# EAGLE library part LEVELSHIFTER (library levelshifter)
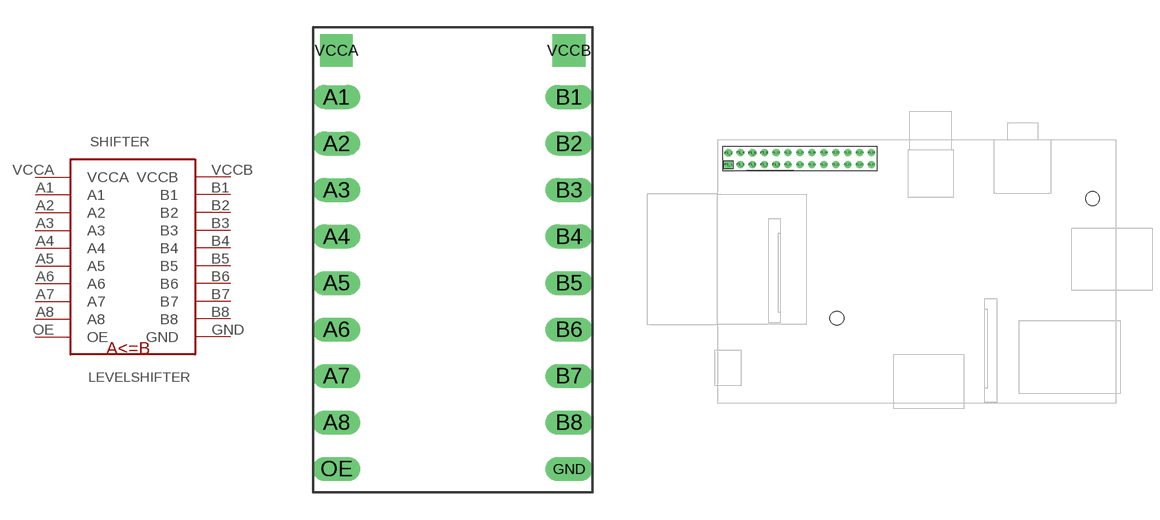
[diagram p0: symbol with the pads of PLUG_20_S4; footprints PLUG_20_S4, RPI-B-V2-SHIELD]

Designator prefix SHIFTER

## LEVELSHIFTER  [PLUG_20_S4]
A1  A1
A2  A2
A3  A3
A4  A4
A5  A5
A6  A6
A7  A7
A8  A8
B1  B1
B2  B2
B3  B3
B4  B4
B5  B5
B6  B6
B7  B7
B8  B8
GND  GND
OE  OE
VCCA  VCCA
VCCB  VCCB

## LEVELSHIFTERRPI-B-V2-SHIELD-NOP5  [RPI-B-V2-SHIELD]

## Footprint PLUG_20_S4 (pad centres in mm)
drill 0.8 long: A1 1.27,-3.81; A2 1.27,-6.35; A3 1.27,-8.89; A4 1.27,-11.43; A5 1.27,-13.97; A6 1.27,-16.51; A7 1.27,-19.05; A8 1.27,-21.59; B1 13.97,-3.81; B2 13.97,-6.35; B3 13.97,-8.89; B4 13.97,-11.43; B5 13.97,-13.97; B6 13.97,-16.51; B7 13.97,-19.05; B8 13.97,-21.59; GND 13.97,-24.13; OE 1.27,-24.13
drill 0.8 pad 1.778 square: VCCA 1.27,-1.27; VCCB 13.97,-1.27

## Footprint RPI-B-V2-SHIELD (pad centres in mm)
drill 1 square: P1_1 0,0
drill 1 pad 1.676: P1_2 0,2.54; P1_6 5.08,2.54
drill 1: P1_3 2.54,0; P1_4 2.54,2.54; P1_5 5.08,0; P1_7 7.62,0; P1_8 7.62,2.54; P1_9 10.16,0; P1_10 10.16,2.54; P1_11 12.7,0; P1_12 12.7,2.54; P1_13 15.24,0; P1_14 15.24,2.54; P1_15 17.78,0; P1_16 17.78,2.54; P1_17 20.32,0; P1_18 20.32,2.54; P1_19 22.86,0; P1_20 22.86,2.54; P1_21 25.4,0; P1_22 25.4,2.54; P1_23 27.94,0; P1_24 27.94,2.54; P1_25 30.48,0; P1_26 30.48,2.54
hole 2.9 at 23.1,-32.72
hole 2.9 at 77.57,-7.21